# EAGLE library part BLUEGIGA-WT11I (library gclueBT)
Bluegiga WT11i Bluetooth Bluetooth 2.1 + EDR Radio Transmit power: +17 dBm Receiver sensitivity: -86 dBm Typical line-of-sight range: 100-300 meters Current Consumption TX peak current: 180 mA RX peak current: 160 mA Deep sleep: 50 uA Certifications Japan: Mic Japan(R 209- J00053)
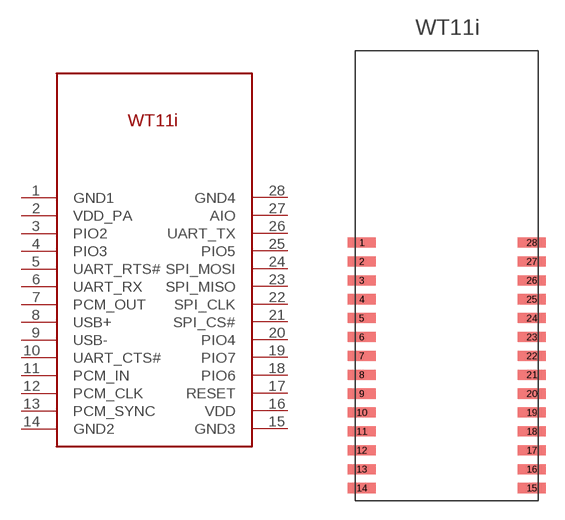
[diagram p2: symbol with the pads of BLUEGIGA-WT11I; footprint BLUEGIGA-WT11I]

Designator prefix WT11I

## BLUEGIGA-WT11I  [BLUEGIGA-WT11I]
1  GND1
2  VDD_PA
3  PIO2
4  PIO3
5  UART_RTS#
6  UART_RX
7  PCM_OUT
8  USB+
9  USB-
10  UART_CTS#
11  PCM_IN
12  PCM_CLK
13  PCM_SYNC
14  GND2
15  GND3
16  VDD
17  RESET
18  PIO6
19  PIO7
20  PIO4
21  SPI_CS#
22  SPI_CLK
23  SPI_MISO
24  SPI_MOSI
25  PIO5
26  UART_TX
27  AIO
28  GND4

## Footprint BLUEGIGA-WT11I (pad centres in mm)
Bluegiga WT11i Bluetooth Bluetooth 2.1 + EDR Radio Transmit power: +17 dBm Receiver sensitivity: -86 dBm Typical line-of-sight range: 100-300 meters Current Consumption TX peak current: 180 mA RX peak current: 160 mA Deep sleep: 50 uA Certifications Japan: Mic Japan(R 209- J00053)
smd 2.2 x 0.8: 1 -6.75,7.04; 2 -6.75,5.54; 3 -6.75,4.04; 4 -6.75,2.54; 5 -6.75,1.04; 6 -6.75,-0.46; 7 -6.75,-1.96; 8 -6.75,-3.46; 9 -6.75,-4.96; 10 -6.75,-6.46; 11 -6.75,-7.96; 12 -6.75,-9.46; 13 -6.75,-10.96; 14 -6.75,-12.46; 15 6.75,-12.46; 16 6.75,-10.96; 17 6.75,-9.46; 18 6.75,-7.96; 19 6.75,-6.46; 20 6.75,-4.96; 21 6.75,-3.46; 22 6.75,-1.96; 23 6.75,-0.46; 24 6.75,1.04; 25 6.75,2.54; 26 6.75,4.04; 27 6.75,5.54; 28 6.75,7.04